# Altium footprint library MyLib_Diode.PcbLib: 10 footprints
Each footprint in its own frame and in the unit in brackets; x right, y up, seen from the top. Pads: shape width x height; smd on the part's side, far side on the other; paste and mask are expansions set on the pad; w line width, h text height; cw(c..) or ccw(c..) is an arc to the next point about the centre after c.
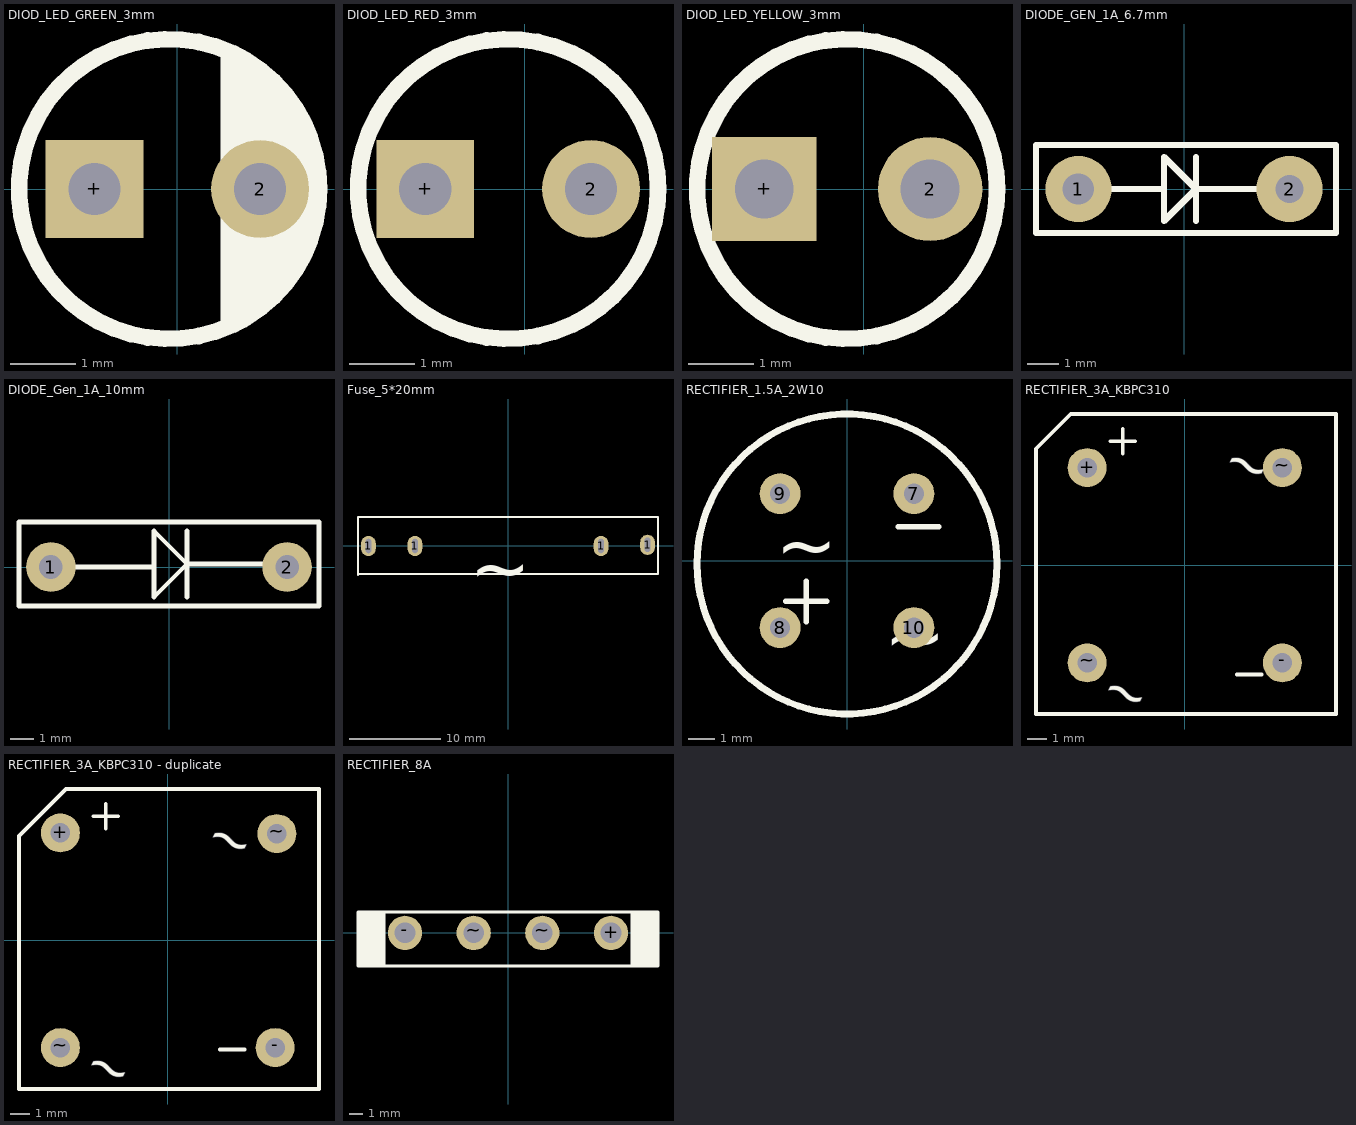
[diagram p0: the footprints below, top view; thin cyan lines are the x and y axes]

## DIOD_LED_GREEN_3mm [mm] "LED 3mm GREEN"
pads (2):
  round 1.5 hole 0.8: 2(1.27,0)
  rect 1.5x1.5 hole 0.8: +(-1.27,0)
Top Overlay:
  circle w0.254: c-0.127,0 r2.3
  lines w0.2: 0.762,-2.032 0.762,2.032 ; 0.889,-2.032 0.889,1.905 ; 1.016,-2.032 1.016,1.905 ; 1.143,-1.905 1.143,1.778 ; 1.27,1.778 1.27,-1.778 1.397,-1.651 1.397,1.651 1.524,1.524 1.524,-1.397 1.651,-1.27 1.651,1.397 1.778,1.27 1.778,-1.27 ; 1.905,-0.762 1.905,0.762 ; 2.032,-0.381 2.032,0.508
3D body "User Library-LEDd3G.STEP": height 5.51, standoff -2.49, extent -1.65,-1.651 1.65,1.649

## DIOD_LED_RED_3mm [mm] "LED 3mm RED"
pads (2):
  round 1.5 hole 0.8: 2(1.02,0)
  rect 1.5x1.5 hole 0.8: +(-1.524,0)
Top Overlay:
  circle w0.254: c-0.254,0 r2.3
3D body "CircuitWorks-REDLED.STEP": height 5.38, standoff -3.17, extent -2.248,-1.524 1.74,1.968

## DIOD_LED_YELLOW_3mm [mm] "LED 3mm Yellow"
pads (2):
  round 1.6 hole 0.9: 2(1.02,0)
  rect 1.6x1.6 hole 0.9: +(-1.524,0)
Top Overlay:
  circle w0.254: c-0.254,0 r2.3
3D body "User Library-led 3mm yellow.STEP": height 4.98, standoff -2.5, extent -1.861,-1.646 1.353,1.651

## DIODE_GEN_1A_6.7mm [mm] "1N4007"
pads (2):
  round 2.1 hole 1: 1(-3.35,0)
  round 2.1 hole 0.9: 2(3.35,0)
Top Overlay:
  lines w0.2: -3.35,0 -0.635,0 ; 0.381,-1.016 0.381,0 ; 0.381,1.016 0.381,0 ; 3.35,0 0.381,0 ; 0.381,0 -0.635,-1.016 -0.635,1.016 0.381,0 ; -4.699,-1.397 -4.699,1.397 4.826,1.397 4.826,-1.397 -4.699,-1.397
3D body "User Library-diode6mm.STEP": height 2.66, standoff -2.34, extent -3.65,-0.127 3.65,1.873

## DIODE_Gen_1A_10mm [mm] "1N4007"
pads (2):
  round 2.1 hole 1: 1(-5,0) 2(5,0)
Top Overlay:
  lines w0.2: -5,0 -0.635,0 ; 0.762,-1.27 0.762,1.524 ; 4.873,0.127 0.762,0.127 ; 0.762,0.127 -0.635,1.524 -0.635,-1.27 0.762,0.127 ; -6.35,-1.651 6.35,-1.651 6.35,1.905 -6.35,1.905 -6.35,-1.651
3D body "User Library-DO-41-2.STEP": height 2.72, standoff -2.6, extent -5.512,-1.323 5.512,1.397

## Fuse_5*20mm [mm]
pads (4):
  oval 1.6x2.2 hole 0.6 slot 1.54 at 90 deg: 1(-15.24,0) 1(-10.16,0) 1(10.16,0) 1(15.24,0.127)
Top Overlay:
  lines w0.2: -16.383,-3.175 -16.256,-3.048 16.383,-3.048 16.383,3.175 -16.383,3.175 -16.383,-3.175
  text "~" at -4.191,-7.112 h10
3D body "CircuitWorks-FUSE.STEP": height 9.84, standoff -3.01, extent -15.44,-2.952 15.44,2.952

## RECTIFIER_1.5A_2W10 [mil] "1.5A"
pads (4):
  round 60 hole 30: 7(98.43,98.43) 8(-98.43,-98.43) 9(-98.43,98.43) 10(98.43,-98.43)
Top Overlay:
  circle w10: c0,-5 r220.47
  lines w7.87: -90,-60 -30,-60 ; -60,-90 -60,-30 ; 75,50 135,50
  text "~" at 55,-150 h78.74
  text "~" at -105,-15 h78.74
3D body "User Library-Silicon Bridge Rectifiers 2W10.STEP": height 393.7, standoff -314.96, extent -177.17,-177.16 177.16,177.17

## RECTIFIER_3A_KBPC310 [mm] "3A"
pads (4):
  round 2 hole 1: +(-5,5) -(5,-5) ~(-5,-5) ~(5,5)
Top Overlay:
  lines w0.2: -3.81,6.35 -2.54,6.35 ; -3.175,5.715 -3.175,6.985 ; 2.667,-5.588 3.937,-5.588 ; -7.62,-7.62 7.747,-7.62 7.747,7.747 -5.842,7.747 -7.62,5.969 -7.62,-7.62
  text "~" at 1.778,4.826 h2
  text "~" at -4.445,-6.858 h2
3D body "User Library-Diode Bridge D-72.STEP": height 6.33, standoff -2, extent -7.875,-7.876 7.875,7.874

## RECTIFIER_3A_KBPC310 - duplicate [mm] "3A"
pads (4):
  round 2 hole 1: +(-5.5,5.5) -(5.5,-5.5) ~(-5.5,-5.5) ~(5.588,5.461)
Top Overlay:
  lines w0.2: -3.81,6.35 -2.54,6.35 ; -3.175,5.715 -3.175,6.985 ; 2.667,-5.588 3.937,-5.588 ; -7.62,-7.62 -7.62,5.334 -5.207,7.747 7.747,7.747 7.747,-7.62 -7.62,-7.62
  text "~" at -4.445,-6.858 h2
  text "~" at 1.778,4.826 h2
3D body "User Library-KBPC610.STEP": height 6.3, standoff -8, extent -7.58,-7.6 7.62,7.6

## RECTIFIER_8A [mm] "8A"
pads (4):
  round 2.5 hole 1.5: +(7.5,0) -(-7.5,0) ~(-2.5,0) ~(2.5,0)
Top Overlay:
  lines w0.2: -8.89,-2.413 -10.922,-2.413 -10.922,1.524 -8.89,1.524 ; 9.017,-2.413 10.922,-2.413 10.922,1.524 9.017,1.524 ; 9.017,-2.413 9.017,1.524 ; 9.017,-2.413 -9.017,-2.413 -9.017,1.524 9.017,1.524
  lines w0.3: -10.668,-2.286 -10.668,1.397 ; -10.414,-2.286 -10.414,1.397 ; -10.16,-2.286 -10.16,1.397 ; -9.906,-2.286 -9.906,1.397 ; -9.652,-2.286 -9.652,1.397 ; -9.398,-2.286 -9.398,1.397 ; -9.144,-2.286 -9.144,1.397 ; 9.144,-2.286 9.144,1.397 ; 9.398,-2.286 9.398,1.397 ; 9.652,-2.286 9.652,1.397 ; 9.906,-2.286 9.906,1.397 ; 10.16,-2.286 10.16,1.397 ; 10.414,-2.286 10.414,1.397 ; 10.668,-2.286 10.668,1.397
3D body "User Library-Silicon Bridge Rectifiers KBU8K.STEP": height 20.65, standoff -21.65, extent -11.6,-2.413 11.6,4.537